# Altium schematic symbol library Slide_Switch.SchLib: 6 symbols
Pins are listed as number, name and electrical type; pins without a type are passive.

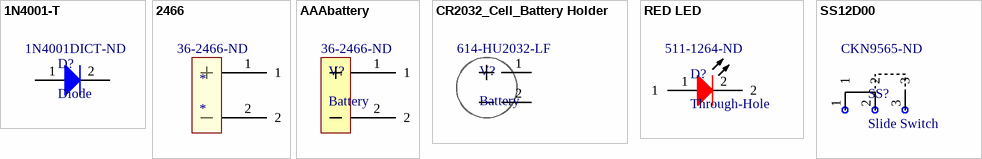
[diagram p0: symbols 1N4001-T to SS12D00]

## 1N4001-T
designator D?, comment Diode  Supplier Part Number 1: 1N4001DICT-ND
DIODE GEN PURP 50V 1A DO41; Manufacturer 1: Diodes; Manufacturer Part Number 1: 1N4001-T; Max Surge Current: 30A; Peak Reverse Current: 5uA; Polarity: Standard; Forward Voltage: 1V; Capacitance: 15pF; Recovery Time: 2us; Supplier 1: Digi-Key; Stock 1: 28951; Pricing 1: 1=0.19000, 10=0.17800, 100=0.07440, 500=0.05840, 1000=0.04056 (USD); RoHS: Yes; Number of Pins: 2; Weight: 0.010582oz; Contact Plating: Tin,Bright; Min Operating Temperature: -65°C; Max Operating Temperature: 150°C; Package Quantity: 5000; Packaging: Tape and Reel; Average Rectified Current: 1A; Max Repetitive Reverse Voltage (Vrrm): 50V; Max Reverse Voltage (DC): 50V; Max Forward Surge Current (Ifsm): 30A; Voltage Rating (DC): 50V; Current Rating: 1A; Output Current: 1A; Peak Non-Repetitive Surge Current: 30A; Forward Current: 1A; Reverse Voltage (DC): 50V; Termination: Through Hole; Diameter: 2.72mm; Length: 4.7mm; Height: 2.71mm; Width: 2.71mm; Radiation Hardening: No; Lead Free: Lead Free; REACH SVHC: No SVHC; ComponentLink1URL: https://datasheet.ciiva.com/1176/ds28002-1176768.pdf?src-supplier=Element14; ComponentLink1Description: https://datasheet.ciiva.com/1176/ds28002-1176768.pdf?src-supplier=Element14; ComponentLink2URL: https://datasheet.ciiva.com/25946/ds28002-25946999.pdf?src-supplier=Avnet+Europe; ComponentLink2Description: https://datasheet.ciiva.com/25946/ds28002-25946999.pdf?src-supplier=Avnet+Europe; ComponentLink3URL: https://datasheet.ciiva.com/911/ds28002-911626.pdf?src-supplier=Digi-Key; ComponentLink3Description: https://datasheet.ciiva.com/911/ds28002-911626.pdf?src-supplier=Digi-Key; ComponentLink4URL: https://datasheet.ciiva.com/4453/ds28002-83776-4453599.pdf?src-supplier=Mouser; ComponentLink4Description: https://datasheet.ciiva.com/4453/ds28002-83776-4453599.pdf?src-supplier=Mouser
pins: 1, 2

## 2466
designator *  Supplier Part Number 1: 36-2466-ND
HOLDER BATTERY 1CELL AAA PC MNT; Manufacturer 1: Keystone Electronics; Manufacturer Part Number 1: 2466; Body Material: PP,Polypropylene; Number of Cells: 1; Supplier 1: Digi-Key; Stock 1: 29787; Pricing 1: 1=1.16000, 10=1.12900, 25=1.07680, 100=0.81760, 250=0.72220, 500=0.66884, 1000=0.62522, 2500=0.56706, 5000=0.52344 (USD); RoHS: Yes; Mount: Through Hole,PCB; Material: Steel,Plastic; Contact Plating: Nickel; Contact Material: Brass; Package Quantity: 100; Termination: PC Pin; Number of Batteries: 1; Packaging: Bag; REACH SVHC: No SVHC; Lead Free: Lead Free; ComponentLink1URL: https://datasheet.ciiva.com/3/2466-3985.pdf?src-supplier=Digi-Key; ComponentLink1Description: https://datasheet.ciiva.com/3/2466-3985.pdf?src-supplier=Digi-Key; ComponentLink2URL: https://datasheet.ciiva.com/20221/18-3680-20221683.pdf?src-supplier=Rapid+Electronics; ComponentLink2Description: https://datasheet.ciiva.com/20221/18-3680-20221683.pdf?src-supplier=Rapid+Electronics; ComponentLink3URL: https://datasheet.ciiva.com/11714/0900766b8002ef75-11714741.pdf?src-supplier=RSComponents; ComponentLink3Description: https://datasheet.ciiva.com/11714/0900766b8002ef75-11714741.pdf?src-supplier=RSComponents; ComponentLink4URL: https://datasheet.ciiva.com/1390/1718288-1390844.pdf?src-supplier=Element14; ComponentLink4Description: https://datasheet.ciiva.com/1390/1718288-1390844.pdf?src-supplier=Element14; ComponentLink5URL: https://datasheet.ciiva.com/16945/70182746-16945557.pdf?src-supplier=Allied+Electronics; ComponentLink5Description: https://datasheet.ciiva.com/16945/70182746-16945557.pdf?src-supplier=Allied+Electronics; ComponentLink6URL: https://datasheet.ciiva.com/16380/m60-2p26-16380778.pdf?src-supplier=Future+Electronics; ComponentLink6Description: https://datasheet.ciiva.com/16380/m60-2p26-16380778.pdf?src-supplier=Future+Electronics; Category: Battery Products
pins: 1, 2

## AAAbattery
designator V?, comment Battery  Supplier Part Number 1: 36-2466-ND
2466- HOLDER BATTERY 1CELL AAA PC MNT; Manufacturer 1: Keystone Electronics; Manufacturer Part Number 1: 2466; Body Material: PP,Polypropylene; Number of Cells: 1; Supplier 1: Digi-Key; Stock 1: 29787; Pricing 1: 1=1.16000, 10=1.12900, 25=1.07680, 100=0.81760, 250=0.72220, 500=0.66884, 1000=0.62522, 2500=0.56706, 5000=0.52344 (USD); RoHS: Yes; Mount: Through Hole,PCB; Contact Plating: Nickel; Material: Steel,Plastic; Contact Material: Brass; Packaging: Bag; Package Quantity: 100; Termination: PC Pin; Number of Batteries: 1; Lead Free: Lead Free; REACH SVHC: No SVHC; ComponentLink1URL: https://datasheet.ciiva.com/3/2466-3985.pdf?src-supplier=Digi-Key; ComponentLink1Description: https://datasheet.ciiva.com/3/2466-3985.pdf?src-supplier=Digi-Key; ComponentLink2URL: https://datasheet.ciiva.com/20221/18-3680-20221683.pdf?src-supplier=Rapid+Electronics; ComponentLink2Description: https://datasheet.ciiva.com/20221/18-3680-20221683.pdf?src-supplier=Rapid+Electronics; ComponentLink3URL: https://datasheet.ciiva.com/11714/0900766b8002ef75-11714741.pdf?src-supplier=RSComponents; ComponentLink3Description: https://datasheet.ciiva.com/11714/0900766b8002ef75-11714741.pdf?src-supplier=RSComponents; ComponentLink4URL: https://datasheet.ciiva.com/1390/1718288-1390844.pdf?src-supplier=Element14; ComponentLink4Description: https://datasheet.ciiva.com/1390/1718288-1390844.pdf?src-supplier=Element14; ComponentLink5URL: https://datasheet.ciiva.com/16945/70182746-16945557.pdf?src-supplier=Allied+Electronics; ComponentLink5Description: https://datasheet.ciiva.com/16945/70182746-16945557.pdf?src-supplier=Allied+Electronics; ComponentLink6URL: https://datasheet.ciiva.com/16380/m60-2p26-16380778.pdf?src-supplier=Future+Electronics; ComponentLink6Description: https://datasheet.ciiva.com/16380/m60-2p26-16380778.pdf?src-supplier=Future+Electronics; Category: Battery Products
pins: 1, 2

## CR2032_Cell_Battery Holder
designator V?, comment Battery  Supplier Part Number 1: 614-HU2032-LF
Cell_Battery Holder; Manufacturer 1: Renata; Manufacturer Part Number 1: HU2032-LF; Number of Cells: 1; Supplier 1: Mouser; Stock 1: 2212; Pricing 1: 1=1.06000, 10=0.95900, 50=0.90700, 100=0.85500, 200=0.79000, 500=0.73800 (USD); RoHS: Yes; Mount: Through Hole,PCB; Material: Polymer,Liquid Crystal Polymer; Contact Plating: Nickel; Package Quantity: 500; Termination: Solder; Packaging: Tray; Number of Batteries: 1; Height: 16.1mm; Lead Free: Lead Free; REACH SVHC: No SVHC; ComponentLink1URL: https://datasheet.ciiva.com/1391/59110-1391059.pdf?src-supplier=Element14; ComponentLink1Description: https://datasheet.ciiva.com/1391/59110-1391059.pdf?src-supplier=Element14; ComponentLink2URL: https://datasheet.ciiva.com/16746/hu2032-lf-16746085.pdf?src-supplier=Future+Electronics; ComponentLink2Description: https://datasheet.ciiva.com/16746/hu2032-lf-16746085.pdf?src-supplier=Future+Electronics; ComponentLink3URL: https://datasheet.ciiva.com/12342/hu2032-lf-28429-12342967.pdf?src-supplier=Mouser; ComponentLink3Description: https://datasheet.ciiva.com/12342/hu2032-lf-28429-12342967.pdf?src-supplier=Mouser
pins: 1, 2

## RED LED
designator D?, comment Through-Hole  Supplier Part Number 1: 511-1264-ND
Manufacturer 1: Rohm; Manufacturer Part Number 1: SLR-56VR3F; Color: Red; Lens Style: Round,Diffused,Colored,Circular; Viewing Angle: 40°; Luminous Intensity: 10mcd; Forward Voltage: 2V; Dominant Wavelength: 630nm; Wavelength: 650nm; Number of LEDs: 1; Test Current: 10mA; Lens Transparency: Diffused; Current: 60mA; Voltage: 3V; Supplier 1: Digi-Key; Stock 1: 10765; Pricing 1: 1=0.60000, 10=0.43500, 100=0.28420, 500=0.20424, 1000=0.15984, 2500=0.14652, 5000=0.13320, 10000=0.12432 (USD); RoHS: Yes; Mount: Through Hole; Case/Package: Radial; Number of Pins: 2; Lens Color: Red; Packaging: Bulk; Package Quantity: 1000; Illumination Color: Red; Diameter: 5mm; Height: 8.9mm; Radiation Hardening: No; Lead Free: Lead Free; ComponentLink1URL: https://datasheet.ciiva.com/2112/slr56-2112051.pdf?src-supplier=Digi-Key; ComponentLink1Description: https://datasheet.ciiva.com/2112/slr56-2112051.pdf?src-supplier=Digi-Key; ComponentLink2URL: https://datasheet.ciiva.com/16487/slr-56series-16487071.pdf?src-supplier=Future+Electronics; ComponentLink2Description: https://datasheet.ciiva.com/16487/slr-56series-16487071.pdf?src-supplier=Future+Electronics
footprint RED LED (ThroughHole)
pins: 1, 2

## SS12D00
designator SS?, comment Slide Switch  Supplier Part Number 1: CKN9565-ND
Manufacturer 1: ITT C&K; Manufacturer Part Number 1: OS102011MS2QN1; Mechanical Life: 15000Cycles; Actuator Material: Polyoxymethylene,Acetal; Throw Configuration: SPDT; Actuator Type: Standard; Current Rating: 300mA; Number of Positions: 2; Contact Resistance: 30mR; Switch Travel: 4mm; Switch Function: On-On; Voltage Rating (AC): 125V; Operating Force: 600gf; PCB Mount Retention: With; Actuator Length: 4.5mm; Tail Length: 3.51mm; Voltage Rating (DC): 12V; Insulation Resistance: 100MR; RoHS: Yes; Mount: Through Hole; Contact Plating: Silver; Contact Material: Copper Alloy; Min Operating Temperature: -20°C; Max Operating Temperature: 85°C; Termination: PC Pins; Electrical Life: 15000Cycles; Packaging: Tray; Orientation: Vertical; Package Quantity: 560; Max Current Rating: 300mA; Contact Current Rating: 300mA; Max Voltage Rating (AC): 125V; Type: Switch; Length: 0.5906inch; Width: 6.2mm; Depth: 6.7mm; Radiation Hardening: No; REACH SVHC: Unknown; Lead Free: Lead Free; Flammability Rating: UL94 HB; ELV: Compliant; ComponentLink1URL: https://datasheet.ciiva.com/16312/1825255-1-16312669.pdf?src-supplier=Future+Electronics; ComponentLink1Description: https://datasheet.ciiva.com/16312/1825255-1-16312669.pdf?src-supplier=Future+Electronics; ComponentLink2URL: https://datasheet.ciiva.com/26326/701730-da-01-en-schiebeschalter-mhs12204-26326741.pdf?src-supplier=Conrad; ComponentLink2Description: https://datasheet.ciiva.com/26326/701730-da-01-en-schiebeschalter-mhs12204-26326741.pdf?src-supplier=Conrad; ComponentLink3URL: https://datasheet.ciiva.com/1532/921681-1532372.pdf?src-supplier=Element14; ComponentLink3Description: https://datasheet.ciiva.com/1532/921681-1532372.pdf?src-supplier=Element14; ComponentLink4URL: https://datasheet.ciiva.com/30160/eng-cs-1308111-1-switches-core-program-catalog-03082-30160106.pdf?src-supplier=Onlinecomponents.com; ComponentLink4Description: https://datasheet.ciiva.com/30160/eng-cs-1308111-1-switches-core-program-catalog-03082-30160106.pdf?src-supplier=Onlinecomponents.com; Supplier 1: Digi-Key; Stock 1: 16288; Pricing 1: 1=0.43000, 10=0.41300, 25=0.40480, 50=0.36160, 100=0.34440, 250=0.33580, 500=0.28414, 1000=0.27552, 5000=0.24108 (USD); Housing Material: Resin; Max Voltage Rating (DC): 12V; ComponentLink5URL: https://datasheet.ciiva.com/30466/0900766b81263f61-30466806.pdf?src-supplier=RSComponents; ComponentLink5Description: https://datasheet.ciiva.com/30466/0900766b81263f61-30466806.pdf?src-supplier=RSComponents; ComponentLink6URL: https://datasheet.ciiva.com/16298/os102011ms2qn1-16298526.pdf?src-supplier=Future+Electronics; ComponentLink6Description: https://datasheet.ciiva.com/16298/os102011ms2qn1-16298526.pdf?src-supplier=Future+Electronics; ComponentLink7URL: https://datasheet.ciiva.com/1532/1683358-1532308.pdf?src-supplier=Element14; ComponentLink7Description: https://datasheet.ciiva.com/1532/1683358-1532308.pdf?src-supplier=Element14; ComponentLink8URL: https://datasheet.ciiva.com/2889/os-19jan15-2889173.pdf?src-supplier=Digi-Key; ComponentLink8Description: https://datasheet.ciiva.com/2889/os-19jan15-2889173.pdf?src-supplier=Digi-Key; ComponentLink9URL: https://datasheet.ciiva.com/1699/os-19jan15-1699479.pdf?src-supplier=Newark; ComponentLink9Description: https://datasheet.ciiva.com/1699/os-19jan15-1699479.pdf?src-supplier=Newark; ComponentLink10URL: https://datasheet.ciiva.com/18147/getdatasheetpartid-320490-18147210.pdf?src-supplier=Verical; ComponentLink10Description: https://datasheet.ciiva.com/18147/getdatasheetpartid-320490-18147210.pdf?src-supplier=Verical; ComponentLink11URL: https://datasheet.ciiva.com/16997/70128245-16997771.pdf?src-supplier=Allied+Electronics; ComponentLink11Description: https://datasheet.ciiva.com/16997/70128245-16997771.pdf?src-supplier=Allied+Electronics; ComponentLink12URL: https://datasheet.ciiva.com/26290/os-11mar13-26290652.pdf?src-supplier=Onlinecomponents.com; ComponentLink12Description: https://datasheet.ciiva.com/26290/os-11mar13-26290652.pdf?src-supplier=Onlinecomponents.com; Category: Switches
pins: 1, 2, 3